# EAGLE library part COMPUTE-MODULE_EDGE-LIBRARY_TPD4EUSB30DQAR_TPD4EUSB30DQAR (library ExportCompute Module)
4-channel ESD solution for SuperSpeed (6 Gbps) USB 3.0 interface 10-USON -40 to 85
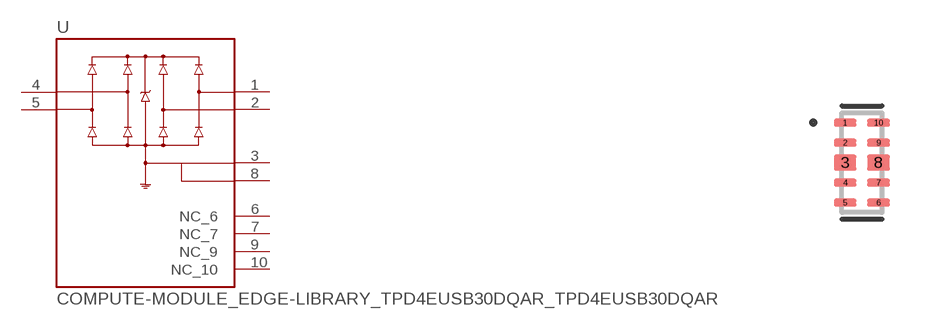
[diagram p7: symbol with the pads of COMPUTE-MODULE_EDGE-LIBRARY_TPD4EUSB30DQAR_IC_TPD4EUSB30DQAR; footprint COMPUTE-MODULE_EDGE-LIBRARY_TPD4EUSB30DQAR_IC_TPD4EUSB30DQAR]

Designator prefix U

## COMPUTE-MODULE_EDGE-LIBRARY_TPD4EUSB30DQAR_TPD4EUSB30DQAR (DIGIKEY: 296-28063-1-ND; MANUFACTURER: Texas Instruments; MPN: TPD4EUSB30DQAR)  [COMPUTE-MODULE_EDGE-LIBRARY_TPD4EUSB30DQAR_IC_TPD4EUSB30DQAR]
1  D1+
2  D1-
3  GND_3
4  D2+
5  D2-
6  NC_6  nc
7  NC_7  nc
8  GND_8
9  NC_9  nc
10  NC_10  nc

## Footprint COMPUTE-MODULE_EDGE-LIBRARY_TPD4EUSB30DQAR_IC_TPD4EUSB30DQAR (pad centres in mm)
smd 0.565 x 0.2: 1 -0.417,1; 2 -0.417,0.5; 4 -0.417,-0.5; 5 -0.417,-1; 6 0.417,-1; 7 0.417,-0.5; 9 0.417,0.5; 10 0.417,1
smd 0.565 x 0.4: 3 -0.417,0; 8 0.417,0